# Altium footprint library RF Transceiver Modules - Modems.PcbLib: 1 footprints
Each footprint in its own frame and in the unit in brackets; x right, y up, seen from the top. Pads: shape width x height; smd on the part's side, far side on the other; paste and mask are expansions set on the pad; w line width, h text height; cw(c..) or ccw(c..) is an arc to the next point about the centre after c.
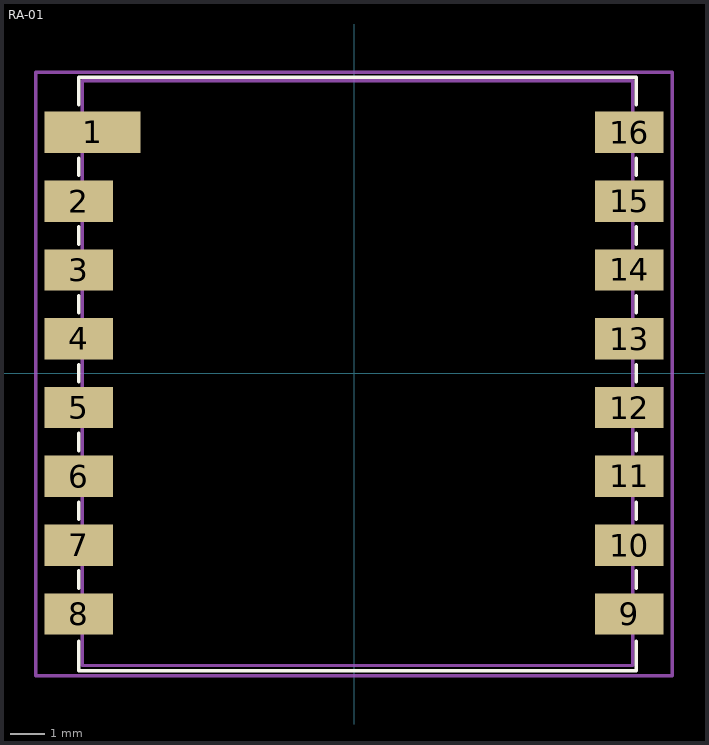
[diagram p0: the footprint, top view; thin cyan lines are the x and y axes]

## RA-01 [mm] "RF Modem"
pads (16):
  rect 2.8x1.199 smd: 1(-7.599,7)
  rect 1.999x1.199 smd: 2(-8,5) 3(-8,3) 4(-8,1) 5(-8,-1) 6(-8,-3) 7(-8,-5) 8(-8,-7) 9(8,-7) 10(8,-5) 11(8,-3) 12(8,-1) 13(8,1) 14(8,3) 15(8,5) 16(8,7)
Top Overlay:
  lines w0.1: -8,-7.8 -8,-8.65 8.2,-8.65 8.2,-7.8 ; -8,-6.25 -8,-5.75 ; -8,-4.25 -8,-3.75 ; -8,-2.25 -8,-1.75 ; -8,-0.25 -8,0.25 ; -8,1.75 -8,2.25 ; -8,3.75 -8,4.25 ; -8,5.75 -8,6.25 ; -8,7.8 -8,8.6 8.2,8.6 8.2,7.8 ; 8.2,-6.25 8.2,-5.75 ; 8.2,-4.25 8.2,-3.75 ; 8.2,-2.25 8.2,-1.75 ; 8.2,-0.25 8.2,0.25 ; 8.2,1.75 8.2,2.25 ; 8.2,3.75 8.2,4.25 ; 8.2,5.75 8.2,6.25
Top 3D Body:
  lines w0.1: -7.9,-8.5 -7.9,8.5 8.1,8.5 8.1,-8.5 -7.9,-8.5
Top Component Center:
  lines w0.1: -9.25,-8.8 -9.25,8.75 9.25,8.75 9.25,-8.8 -9.25,-8.8
Top Designator:
  lines w0.1: -9.25,-8.8 -9.25,8.75 9.25,8.75 9.25,-8.8 -9.25,-8.8
  text ".Designator" at 0,-0.033 h0.5
3D body "RA-01H--3DModel-STEP-1.STEP": height 3.4, standoff 0, extent -7.9,-8.5 8.1,8.5